# Altium integrated library XPT2046.IntLib: 1 symbol
Pins are listed as number, name and electrical type; pins without a type are passive.

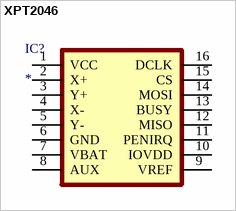
[diagram p0: symbol XPT2046]

## XPT2046
designator IC?
RASPBERRY PI 3.5 TFT DISPLAY; MF: Xptek; MP: XPT2046; Package: Package; Price: None; Value: *; SnapEDA_Link: https://www.snapeda.com/parts/XPT2046/Xptek/view-part/?ref=snap; Availability: Not in stock; Check_prices: https://www.snapeda.com/parts/XPT2046/Xptek/view-part/?ref=eda
footprint TSSOP16
pins: 1 VCC, 2 X+, 3 Y+, 4 X-, 5 Y-, 6 GND, 7 VBAT, 8 AUX, 9 VREF, 10 IOVDD, 11 PENIRQ, 12 MISO, 13 BUSY, 14 MOSI, 15 CS, 16 DCLK